# Altium footprint library PCB_ConnectorHDR.PcbLib: 26 footprints (part 2 of 2)
Each footprint in its own frame and in the unit in brackets; x right, y up, seen from the top. Pads: shape width x height; smd on the part's side, far side on the other; paste and mask are expansions set on the pad; w line width, h text height; cw(c..) or ccw(c..) is an arc to the next point about the centre after c.
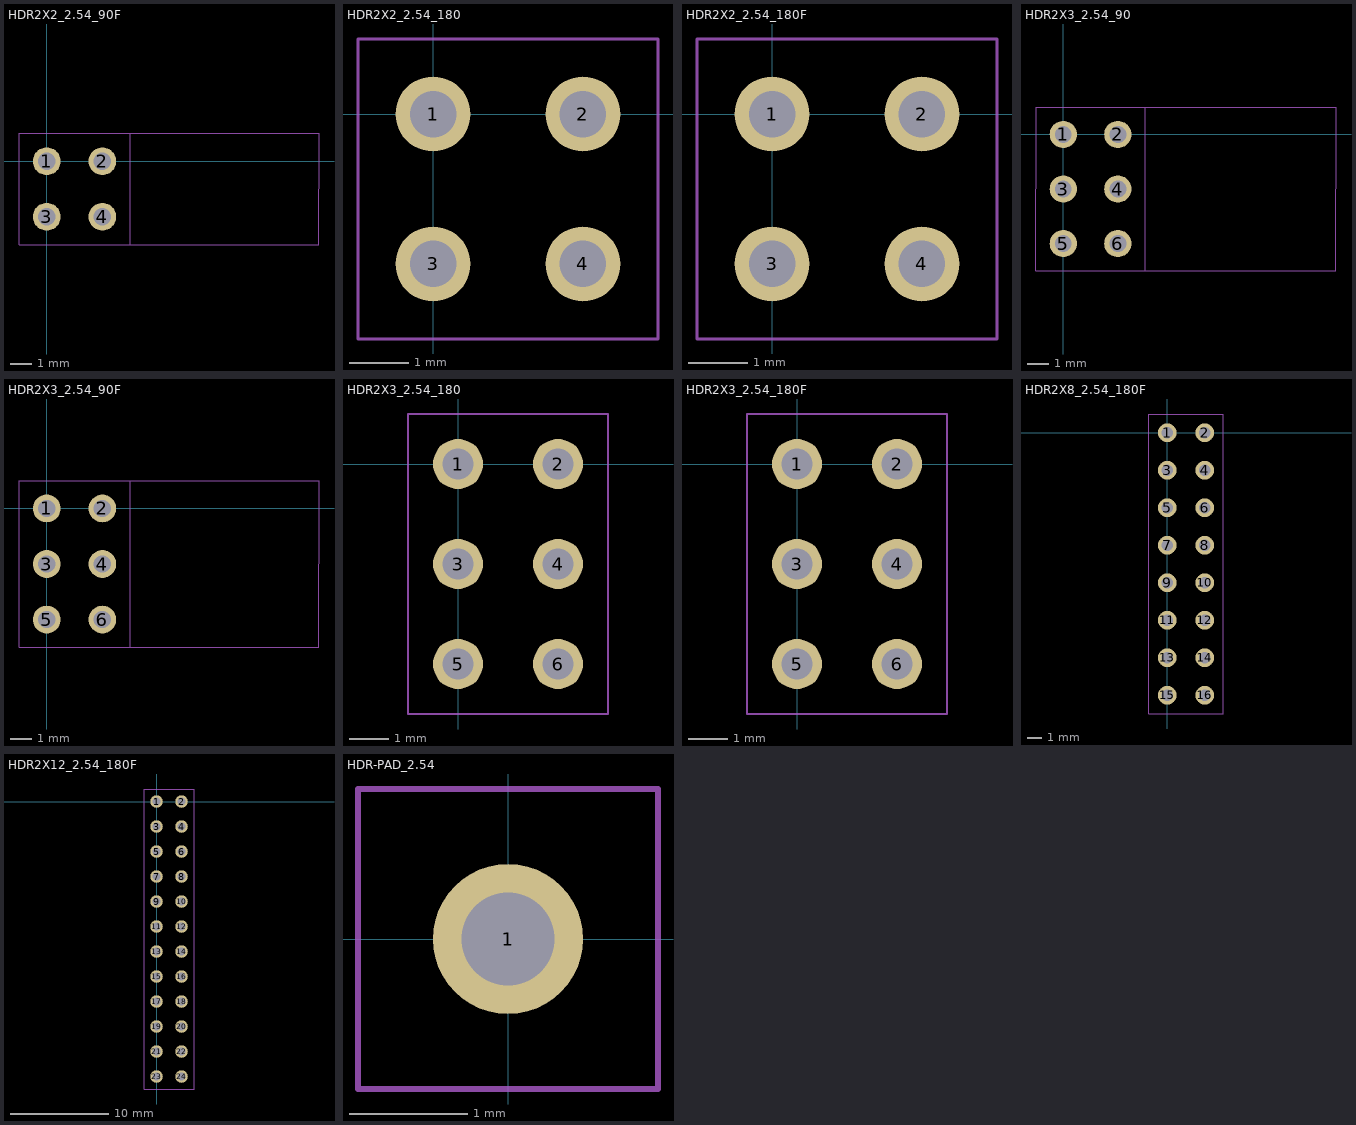
[diagram p1: the footprints below, top view; thin cyan lines are the x and y axes]

## HDR2X2_2.54_90F [mil]
height 169.29
pads (4):
  round 50 hole 31: 1(0,0) 2(100,0) 3(0,-100) 4(100,-100)
Mechanical 15:
  lines w1: -10,0 10,0 ; 0,-10 0,10
  lines w2: 150,-150 150,50 ; -50,-150 -50,50 490,50 490,-150 -50,-150
3D body: height 198.43, standoff -124.41, extent -10,-154.92 486.06,54.92

## HDR2X2_2.54_180 [mil]
height 169.29
pads (4):
  round 50 hole 31: 1(0,0) 2(100,0) 3(0,-100) 4(100,-100)
Mechanical 15:
  lines w1: -10,0 10,0 ; 0,-10 0,10
  lines w2: -50,-150 -50,50 150,50 150,-150 -50,-150
3D body: height 334.65, standoff -118.11, extent -49.99,-150 150.01,50

## HDR2X2_2.54_180F [mil]
height 169.29
pads (4):
  round 50 hole 31: 1(0,0) 2(100,0) 3(0,-100) 4(100,-100)
Mechanical 15:
  lines w1: -10,0 10,0 ; 0,-10 0,10
  lines w2: -50,-150 150,-150 150,50 -50,50 -50,-150
3D body: height 334.65, standoff -125.98, extent -48.42,-154.93 148.43,54.92

## HDR2X3_2.54_90 [mil]
height 169.29
pads (6):
  round 50 hole 31: 1(0,0) 2(100,0) 3(0,-100) 4(100,-100) 5(0,-200) 6(100,-200)
Mechanical 15:
  lines w1: -10,0 10,0 ; 0,-10 0,10
  lines w2: 150,-250 150,50 ; -50,-250 500,-250 500,50 -50,50 -50,-250
3D body: height 198.43, standoff -116.54, extent -10,-250 497.09,50

## HDR2X3_2.54_90F [mil]
height 169.29
pads (6):
  round 50 hole 31: 1(0,0) 2(100,0) 3(0,-100) 4(100,-100) 5(0,-200) 6(100,-200)
Mechanical 15:
  lines w1: -10,0 10,0 ; 0,-10 0,10
  lines w2: 150,-250 150,50 ; -50,-250 -50,50 490,50 490,-250 -50,-250
3D body: height 198.43, standoff -124.41, extent -10,-254.92 486.06,54.92

## HDR2X3_2.54_180 [mil]
height 169.29
pads (6):
  round 50 hole 31: 1(0,0) 2(100,0) 3(0,-100) 4(100,-100) 5(0,-200) 6(100,-200)
Mechanical 15:
  lines w1: -10,0 10,0 ; 0,-10 0,10
  lines w2: -50,-250 -50,50 150,50 150,-250 -50,-250
3D body: height 334.65, standoff -118.11, extent -50,-249.99 150,50

## HDR2X3_2.54_180F [mil]
height 169.29
pads (6):
  round 50 hole 31: 1(0,0) 2(100,0) 3(0,-100) 4(100,-100) 5(0,-200) 6(100,-200)
Mechanical 15:
  lines w1: -10,0 10,0 ; 0,-10 0,10
  lines w2: -50,-250 -50,50 150,50 150,-250 -50,-250
3D body: height 334.65, standoff -125.98, extent -48.42,-254.91 148.43,54.92

## HDR2X8_2.54_180F [mil]
height 169.29
pads (16):
  round 50 hole 31: 1(0,0) 2(100,0) 3(0,-100) 4(100,-100) 5(0,-200) 6(100,-200) 7(0,-300) 8(100,-300) 9(0,-400) 10(100,-400) 11(0,-500) 12(100,-500) 13(0,-600) 14(100,-600) 15(0,-700) 16(100,-700)
Mechanical 15:
  lines w1: -10,0 10,0 ; 0,-10 0,10
  lines w2: -50,-750 -50,50 150,50 150,-750 -50,-750
3D body: height 334.65, standoff -125.98, extent -48.42,-754.92 148.43,54.93

## HDR2X12_2.54_180F [mil]
height 169.29
pads (24):
  round 50 hole 31: 1(0,0) 2(100,0) 3(0,-100) 4(100,-100) 5(0,-200) 6(100,-200) 7(0,-300) 8(100,-300) 9(0,-400) 10(100,-400) 11(0,-500) 12(100,-500) 13(0,-600) 14(100,-600) 15(0,-700) 16(100,-700) 17(0,-800) 18(100,-800) 19(0,-900) 20(100,-900) 21(0,-1000) 22(100,-1000) 23(0,-1100) 24(100,-1100)
Mechanical 15:
  lines w1: -10,0 10,0 ; 0,-10 0,10
  lines w2: -50,-1150 -50,50 150,50 150,-1150 -50,-1150
3D body: height 334.65, standoff -125.98, extent -48.43,-1154.92 148.42,54.92

## HDR-PAD_2.54 [mil]
height 169.29
pads (1):
  round 50 hole 31: 1(0,0)
Mechanical 15:
  lines w1: -10,0 10,0 ; 0,-10 0,10
  lines w2: -50,-50 50,-50 50,50 -50,50 -50,-50